# Altium schematic symbol library ARM Cortex.SchLib: 10 symbols
Pins are listed as number, name and electrical type; pins without a type are passive.

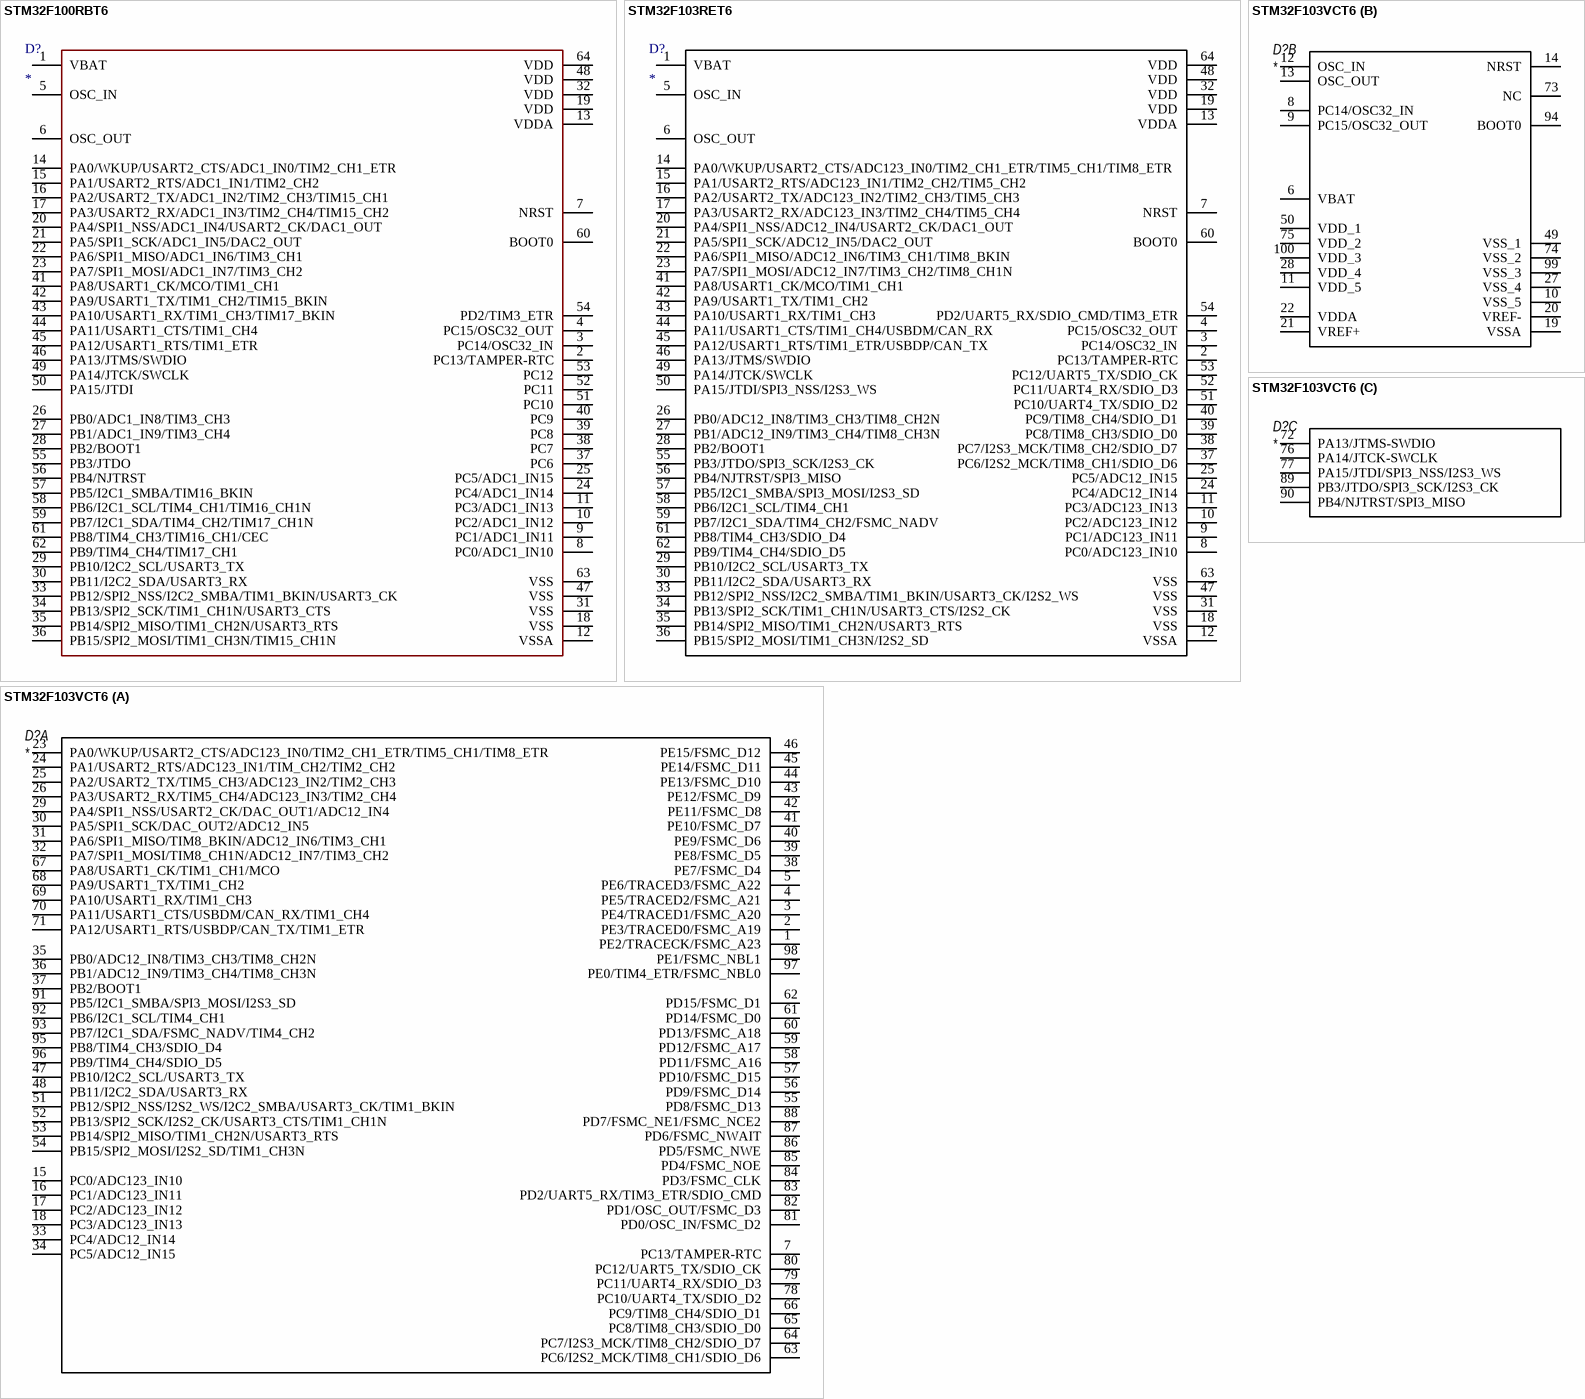
[diagram p0: symbols STM32F100RBT6 to STM32F103VCT6]

## STM32F100RBT6
designator D?
pins: 1 VBAT, 2 PC13/TAMPER-RTC, 3 PC14/OSC32_IN, 4 PC15/OSC32_OUT, 5 OSC_IN, 6 OSC_OUT, 7 NRST, 8 PC0/ADC1_IN10, 9 PC1/ADC1_IN11, 10 PC2/ADC1_IN12, 11 PC3/ADC1_IN13, 12 VSSA, 13 VDDA, 14 PA0/WKUP/USART2_CTS/ADC1_IN0/TIM2_CH1_ETR, 15 PA1/USART2_RTS/ADC1_IN1/TIM2_CH2, 16 PA2/USART2_TX/ADC1_IN2/TIM2_CH3/TIM15_CH1, 17 PA3/USART2_RX/ADC1_IN3/TIM2_CH4/TIM15_CH2, 18 VSS, 19 VDD, 20 PA4/SPI1_NSS/ADC1_IN4/USART2_CK/DAC1_OUT, 21 PA5/SPI1_SCK/ADC1_IN5/DAC2_OUT, 22 PA6/SPI1_MISO/ADC1_IN6/TIM3_CH1, 23 PA7/SPI1_MOSI/ADC1_IN7/TIM3_CH2, 24 PC4/ADC1_IN14, 25 PC5/ADC1_IN15, 26 PB0/ADC1_IN8/TIM3_CH3, 27 PB1/ADC1_IN9/TIM3_CH4, 28 PB2/BOOT1, 29 PB10/I2C2_SCL/USART3_TX, 30 PB11/I2C2_SDA/USART3_RX, 31 VSS, 32 VDD, 33 PB12/SPI2_NSS/I2C2_SMBA/TIM1_BKIN/USART3_CK, 34 PB13/SPI2_SCK/TIM1_CH1N/USART3_CTS, 35 PB14/SPI2_MISO/TIM1_CH2N/USART3_RTS, 36 PB15/SPI2_MOSI/TIM1_CH3N/TIM15_CH1N, 37 PC6, 38 PC7, 39 PC8, 40 PC9, 41 PA8/USART1_CK/MCO/TIM1_CH1, 42 PA9/USART1_TX/TIM1_CH2/TIM15_BKIN, 43 PA10/USART1_RX/TIM1_CH3/TIM17_BKIN, 44 PA11/USART1_CTS/TIM1_CH4, 45 PA12/USART1_RTS/TIM1_ETR, 46 PA13/JTMS/SWDIO, 47 VSS, 48 VDD, 49 PA14/JTCK/SWCLK, 50 PA15/JTDI, 51 PC10, 52 PC11, 53 PC12, 54 PD2/TIM3_ETR, 55 PB3/JTDO, 56 PB4/NJTRST, 57 PB5/I2C1_SMBA/TIM16_BKIN, 58 PB6/I2C1_SCL/TIM4_CH1/TIM16_CH1N, 59 PB7/I2C1_SDA/TIM4_CH2/TIM17_CH1N, 60 BOOT0, 61 PB8/TIM4_CH3/TIM16_CH1/CEC, 62 PB9/TIM4_CH4/TIM17_CH1, 63 VSS, 64 VDD

## STM32F103RET6
designator D?
pins: 1 VBAT, 2 PC13/TAMPER-RTC, 3 PC14/OSC32_IN, 4 PC15/OSC32_OUT, 5 OSC_IN, 6 OSC_OUT, 7 NRST, 8 PC0/ADC123_IN10, 9 PC1/ADC123_IN11, 10 PC2/ADC123_IN12, 11 PC3/ADC123_IN13, 12 VSSA, 13 VDDA, 14 PA0/WKUP/USART2_CTS/ADC123_IN0/TIM2_CH1_ETR/TIM5_CH1/TIM8_ETR, 15 PA1/USART2_RTS/ADC123_IN1/TIM2_CH2/TIM5_CH2, 16 PA2/USART2_TX/ADC123_IN2/TIM2_CH3/TIM5_CH3, 17 PA3/USART2_RX/ADC123_IN3/TIM2_CH4/TIM5_CH4, 18 VSS, 19 VDD, 20 PA4/SPI1_NSS/ADC12_IN4/USART2_CK/DAC1_OUT, 21 PA5/SPI1_SCK/ADC12_IN5/DAC2_OUT, 22 PA6/SPI1_MISO/ADC12_IN6/TIM3_CH1/TIM8_BKIN, 23 PA7/SPI1_MOSI/ADC12_IN7/TIM3_CH2/TIM8_CH1N, 24 PC4/ADC12_IN14, 25 PC5/ADC12_IN15, 26 PB0/ADC12_IN8/TIM3_CH3/TIM8_CH2N, 27 PB1/ADC12_IN9/TIM3_CH4/TIM8_CH3N, 28 PB2/BOOT1, 29 PB10/I2C2_SCL/USART3_TX, 30 PB11/I2C2_SDA/USART3_RX, 31 VSS, 32 VDD, 33 PB12/SPI2_NSS/I2C2_SMBA/TIM1_BKIN/USART3_CK/I2S2_WS, 34 PB13/SPI2_SCK/TIM1_CH1N/USART3_CTS/I2S2_CK, 35 PB14/SPI2_MISO/TIM1_CH2N/USART3_RTS, 36 PB15/SPI2_MOSI/TIM1_CH3N/I2S2_SD, 37 PC6/I2S2_MCK/TIM8_CH1/SDIO_D6, 38 PC7/I2S3_MCK/TIM8_CH2/SDIO_D7, 39 PC8/TIM8_CH3/SDIO_D0, 40 PC9/TIM8_CH4/SDIO_D1, 41 PA8/USART1_CK/MCO/TIM1_CH1, 42 PA9/USART1_TX/TIM1_CH2, 43 PA10/USART1_RX/TIM1_CH3, 44 PA11/USART1_CTS/TIM1_CH4/USBDM/CAN_RX, 45 PA12/USART1_RTS/TIM1_ETR/USBDP/CAN_TX, 46 PA13/JTMS/SWDIO, 47 VSS, 48 VDD, 49 PA14/JTCK/SWCLK, 50 PA15/JTDI/SPI3_NSS/I2S3_WS, 51 PC10/UART4_TX/SDIO_D2, 52 PC11/UART4_RX/SDIO_D3, 53 PC12/UART5_TX/SDIO_CK, 54 PD2/UART5_RX/SDIO_CMD/TIM3_ETR, 55 PB3/JTDO/SPI3_SCK/I2S3_CK, 56 PB4/NJTRST/SPI3_MISO, 57 PB5/I2C1_SMBA/SPI3_MOSI/I2S3_SD, 58 PB6/I2C1_SCL/TIM4_CH1, 59 PB7/I2C1_SDA/TIM4_CH2/FSMC_NADV, 60 BOOT0, 61 PB8/TIM4_CH3/SDIO_D4, 62 PB9/TIM4_CH4/SDIO_D5, 63 VSS, 64 VDD

## STM32F103VCT6
designator D?
LQFP100
part A pins: 1 PE2/TRACECK/FSMC_A23, 2 PE3/TRACED0/FSMC_A19, 3 PE4/TRACED1/FSMC_A20, 4 PE5/TRACED2/FSMC_A21, 5 PE6/TRACED3/FSMC_A22, 7 PC13/TAMPER-RTC, 15 PC0/ADC123_IN10, 16 PC1/ADC123_IN11, 17 PC2/ADC123_IN12, 18 PC3/ADC123_IN13, 23 PA0/WKUP/USART2_CTS/ADC123_IN0/TIM2_CH1_ETR/TIM5_CH1/TIM8_ETR, 24 PA1/USART2_RTS/ADC123_IN1/TIM_CH2/TIM2_CH2, 25 PA2/USART2_TX/TIM5_CH3/ADC123_IN2/TIM2_CH3, 26 PA3/USART2_RX/TIM5_CH4/ADC123_IN3/TIM2_CH4, 29 PA4/SPI1_NSS/USART2_CK/DAC_OUT1/ADC12_IN4, 30 PA5/SPI1_SCK/DAC_OUT2/ADC12_IN5, 31 PA6/SPI1_MISO/TIM8_BKIN/ADC12_IN6/TIM3_CH1, 32 PA7/SPI1_MOSI/TIM8_CH1N/ADC12_IN7/TIM3_CH2, 33 PC4/ADC12_IN14, 34 PC5/ADC12_IN15, 35 PB0/ADC12_IN8/TIM3_CH3/TIM8_CH2N, 36 PB1/ADC12_IN9/TIM3_CH4/TIM8_CH3N, 37 PB2/BOOT1, 38 PE7/FSMC_D4, 39 PE8/FSMC_D5, 40 PE9/FSMC_D6, 41 PE10/FSMC_D7, 42 PE11/FSMC_D8, 43 PE12/FSMC_D9, 44 PE13/FSMC_D10, 45 PE14/FSMC_D11, 46 PE15/FSMC_D12, 47 PB10/I2C2_SCL/USART3_TX, 48 PB11/I2C2_SDA/USART3_RX, 51 PB12/SPI2_NSS/I2S2_WS/I2C2_SMBA/USART3_CK/TIM1_BKIN, 52 PB13/SPI2_SCK/I2S2_CK/USART3_CTS/TIM1_CH1N, 53 PB14/SPI2_MISO/TIM1_CH2N/USART3_RTS, 54 PB15/SPI2_MOSI/I2S2_SD/TIM1_CH3N, 55 PD8/FSMC_D13, 56 PD9/FSMC_D14, 57 PD10/FSMC_D15, 58 PD11/FSMC_A16, 59 PD12/FSMC_A17, 60 PD13/FSMC_A18, 61 PD14/FSMC_D0, 62 PD15/FSMC_D1, 63 PC6/I2S2_MCK/TIM8_CH1/SDIO_D6, 64 PC7/I2S3_MCK/TIM8_CH2/SDIO_D7, 65 PC8/TIM8_CH3/SDIO_D0, 66 PC9/TIM8_CH4/SDIO_D1, 67 PA8/USART1_CK/TIM1_CH1/MCO, 68 PA9/USART1_TX/TIM1_CH2, 69 PA10/USART1_RX/TIM1_CH3, 70 PA11/USART1_CTS/USBDM/CAN_RX/TIM1_CH4, 71 PA12/USART1_RTS/USBDP/CAN_TX/TIM1_ETR, 78 PC10/UART4_TX/SDIO_D2, 79 PC11/UART4_RX/SDIO_D3, 80 PC12/UART5_TX/SDIO_CK, 81 PD0/OSC_IN/FSMC_D2, 82 PD1/OSC_OUT/FSMC_D3, 83 PD2/UART5_RX/TIM3_ETR/SDIO_CMD, 84 PD3/FSMC_CLK, 85 PD4/FSMC_NOE, 86 PD5/FSMC_NWE, 87 PD6/FSMC_NWAIT, 88 PD7/FSMC_NE1/FSMC_NCE2, 91 PB5/I2C1_SMBA/SPI3_MOSI/I2S3_SD, 92 PB6/I2C1_SCL/TIM4_CH1, 93 PB7/I2C1_SDA/FSMC_NADV/TIM4_CH2, 95 PB8/TIM4_CH3/SDIO_D4, 96 PB9/TIM4_CH4/SDIO_D5, 97 PE0/TIM4_ETR/FSMC_NBL0, 98 PE1/FSMC_NBL1
part B pins: 6 VBAT, 8 PC14/OSC32_IN, 9 PC15/OSC32_OUT, 10 VSS_5, 11 VDD_5, 12 OSC_IN, 13 OSC_OUT, 14 NRST, 19 VSSA, 20 VREF-, 21 VREF+, 22 VDDA, 27 VSS_4, 28 VDD_4, 49 VSS_1, 50 VDD_1, 73 NC, 74 VSS_2, 75 VDD_2, 94 BOOT0, 99 VSS_3, 100 VDD_3
part C pins: 72 PA13/JTMS-SWDIO, 76 PA14/JTCK-SWCLK, 77 PA15/JTDI/SPI3_NSS/I2S3_WS, 89 PB3/JTDO/SPI3_SCK/I2S3_CK, 90 PB4/NJTRST/SPI3_MISO

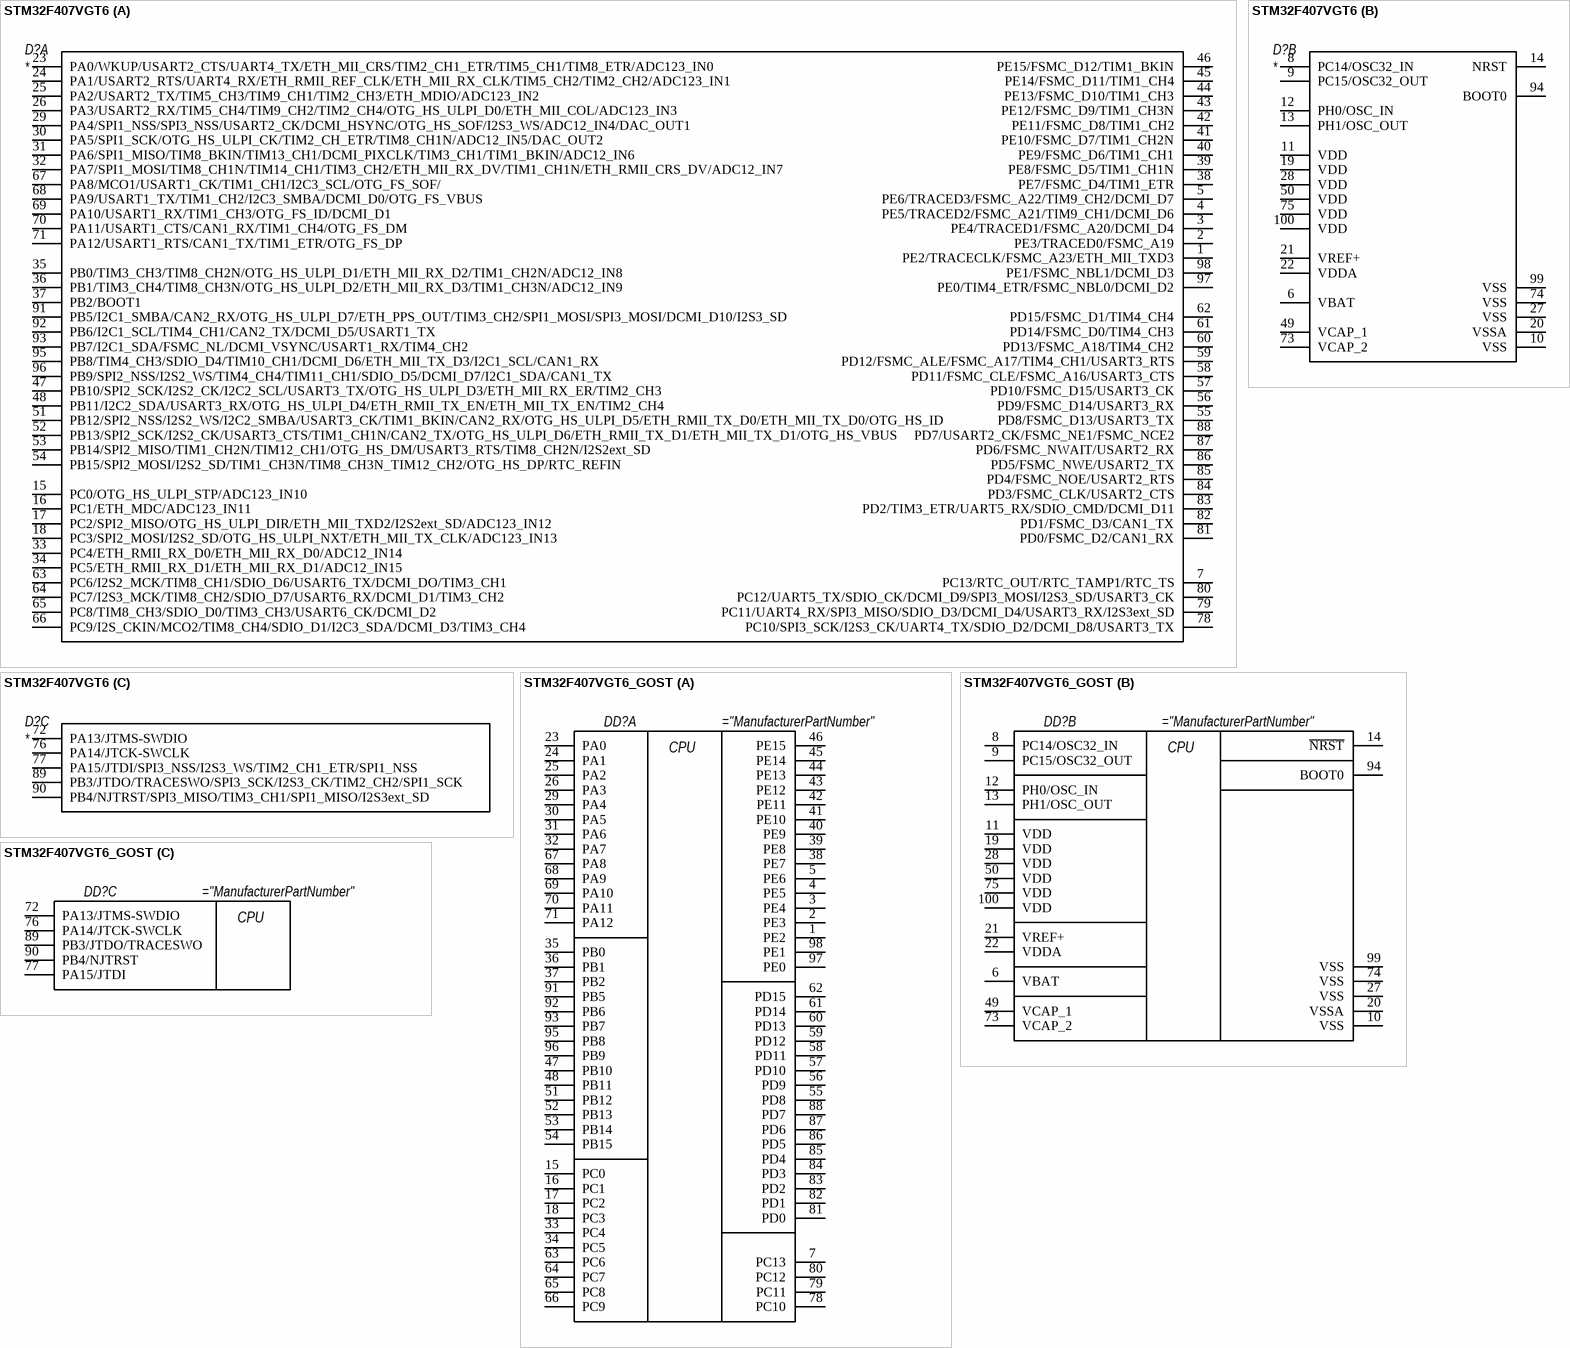
[diagram p1: symbols STM32F407VGT6 to STM32F407VGT6_GOST]

## STM32F407VGT6
designator D?
part A pins: 1 PE2/TRACECLK/FSMC_A23/ETH_MII_TXD3, 2 PE3/TRACED0/FSMC_A19, 3 PE4/TRACED1/FSMC_A20/DCMI_D4, 4 PE5/TRACED2/FSMC_A21/TIM9_CH1/DCMI_D6, 5 PE6/TRACED3/FSMC_A22/TIM9_CH2/DCMI_D7, 7 PC13/RTC_OUT/RTC_TAMP1/RTC_TS, 15 PC0/OTG_HS_ULPI_STP/ADC123_IN10, 16 PC1/ETH_MDC/ADC123_IN11, 17 PC2/SPI2_MISO/OTG_HS_ULPI_DIR/ETH_MII_TXD2/I2S2ext_SD/ADC123_IN12, 18 PC3/SPI2_MOSI/I2S2_SD/OTG_HS_ULPI_NXT/ETH_MII_TX_CLK/ADC123_IN13, 23 PA0/WKUP/USART2_CTS/UART4_TX/ETH_MII_CRS/TIM2_CH1_ETR/TIM5_CH1/TIM8_ETR/ADC123_IN0, 24 PA1/USART2_RTS/UART4_RX/ETH_RMII_REF_CLK/ETH_MII_RX_CLK/TIM5_CH2/TIM2_CH2/ADC123_IN1, 25 PA2/USART2_TX/TIM5_CH3/TIM9_CH1/TIM2_CH3/ETH_MDIO/ADC123_IN2, 26 PA3/USART2_RX/TIM5_CH4/TIM9_CH2/TIM2_CH4/OTG_HS_ULPI_D0/ETH_MII_COL/ADC123_IN3, 29 PA4/SPI1_NSS/SPI3_NSS/USART2_CK/DCMI_HSYNC/OTG_HS_SOF/I2S3_WS/ADC12_IN4/DAC_OUT1, 30 PA5/SPI1_SCK/OTG_HS_ULPI_CK/TIM2_CH_ETR/TIM8_CH1N/ADC12_IN5/DAC_OUT2, 31 PA6/SPI1_MISO/TIM8_BKIN/TIM13_CH1/DCMI_PIXCLK/TIM3_CH1/TIM1_BKIN/ADC12_IN6, 32 PA7/SPI1_MOSI/TIM8_CH1N/TIM14_CH1/TIM3_CH2/ETH_MII_RX_DV/TIM1_CH1N/ETH_RMII_CRS_DV/ADC12_IN7, 33 PC4/ETH_RMII_RX_D0/ETH_MII_RX_D0/ADC12_IN14, 34 PC5/ETH_RMII_RX_D1/ETH_MII_RX_D1/ADC12_IN15, 35 PB0/TIM3_CH3/TIM8_CH2N/OTG_HS_ULPI_D1/ETH_MII_RX_D2/TIM1_CH2N/ADC12_IN8, 36 PB1/TIM3_CH4/TIM8_CH3N/OTG_HS_ULPI_D2/ETH_MII_RX_D3/TIM1_CH3N/ADC12_IN9, 37 PB2/BOOT1, 38 PE7/FSMC_D4/TIM1_ETR, 39 PE8/FSMC_D5/TIM1_CH1N, 40 PE9/FSMC_D6/TIM1_CH1, 41 PE10/FSMC_D7/TIM1_CH2N, 42 PE11/FSMC_D8/TIM1_CH2, 43 PE12/FSMC_D9/TIM1_CH3N, 44 PE13/FSMC_D10/TIM1_CH3, 45 PE14/FSMC_D11/TIM1_CH4, 46 PE15/FSMC_D12/TIM1_BKIN, 47 PB10/SPI2_SCK/I2S2_CK/I2C2_SCL/USART3_TX/OTG_HS_ULPI_D3/ETH_MII_RX_ER/TIM2_CH3, 48 PB11/I2C2_SDA/USART3_RX/OTG_HS_ULPI_D4/ETH_RMII_TX_EN/ETH_MII_TX_EN/TIM2_CH4, 51 PB12/SPI2_NSS/I2S2_WS/I2C2_SMBA/USART3_CK/TIM1_BKIN/CAN2_RX/OTG_HS_ULPI_D5/ETH_RMII_TX_D0/ETH_MII_TX_D0/OTG_HS_ID, 52 PB13/SPI2_SCK/I2S2_CK/USART3_CTS/TIM1_CH1N/CAN2_TX/OTG_HS_ULPI_D6/ETH_RMII_TX_D1/ETH_MII_TX_D1/OTG_HS_VBUS, 53 PB14/SPI2_MISO/TIM1_CH2N/TIM12_CH1/OTG_HS_DM/USART3_RTS/TIM8_CH2N/I2S2ext_SD, 54 PB15/SPI2_MOSI/I2S2_SD/TIM1_CH3N/TIM8_CH3N_TIM12_CH2/OTG_HS_DP/RTC_REFIN, 55 PD8/FSMC_D13/USART3_TX, 56 PD9/FSMC_D14/USART3_RX, 57 PD10/FSMC_D15/USART3_CK, 58 PD11/FSMC_CLE/FSMC_A16/USART3_CTS, 59 PD12/FSMC_ALE/FSMC_A17/TIM4_CH1/USART3_RTS, 60 PD13/FSMC_A18/TIM4_CH2, 61 PD14/FSMC_D0/TIM4_CH3, 62 PD15/FSMC_D1/TIM4_CH4, 63 PC6/I2S2_MCK/TIM8_CH1/SDIO_D6/USART6_TX/DCMI_DO/TIM3_CH1, 64 PC7/I2S3_MCK/TIM8_CH2/SDIO_D7/USART6_RX/DCMI_D1/TIM3_CH2, 65 PC8/TIM8_CH3/SDIO_D0/TIM3_CH3/USART6_CK/DCMI_D2, 66 PC9/I2S_CKIN/MCO2/TIM8_CH4/SDIO_D1/I2C3_SDA/DCMI_D3/TIM3_CH4, 67 PA8/MCO1/USART1_CK/TIM1_CH1/I2C3_SCL/OTG_FS_SOF/, 68 PA9/USART1_TX/TIM1_CH2/I2C3_SMBA/DCMI_D0/OTG_FS_VBUS, 69 PA10/USART1_RX/TIM1_CH3/OTG_FS_ID/DCMI_D1, 70 PA11/USART1_CTS/CAN1_RX/TIM1_CH4/OTG_FS_DM, 71 PA12/USART1_RTS/CAN1_TX/TIM1_ETR/OTG_FS_DP, 78 PC10/SPI3_SCK/I2S3_CK/UART4_TX/SDIO_D2/DCMI_D8/USART3_TX, 79 PC11/UART4_RX/SPI3_MISO/SDIO_D3/DCMI_D4/USART3_RX/I2S3ext_SD, 80 PC12/UART5_TX/SDIO_CK/DCMI_D9/SPI3_MOSI/I2S3_SD/USART3_CK, 81 PD0/FSMC_D2/CAN1_RX, 82 PD1/FSMC_D3/CAN1_TX, 83 PD2/TIM3_ETR/UART5_RX/SDIO_CMD/DCMI_D11, 84 PD3/FSMC_CLK/USART2_CTS, 85 PD4/FSMC_NOE/USART2_RTS, 86 PD5/FSMC_NWE/USART2_TX, 87 PD6/FSMC_NWAIT/USART2_RX, 88 PD7/USART2_CK/FSMC_NE1/FSMC_NCE2, 91 PB5/I2C1_SMBA/CAN2_RX/OTG_HS_ULPI_D7/ETH_PPS_OUT/TIM3_CH2/SPI1_MOSI/SPI3_MOSI/DCMI_D10/I2S3_SD, 92 PB6/I2C1_SCL/TIM4_CH1/CAN2_TX/DCMI_D5/USART1_TX, 93 PB7/I2C1_SDA/FSMC_NL/DCMI_VSYNC/USART1_RX/TIM4_CH2, 95 PB8/TIM4_CH3/SDIO_D4/TIM10_CH1/DCMI_D6/ETH_MII_TX_D3/I2C1_SCL/CAN1_RX, 96 PB9/SPI2_NSS/I2S2_WS/TIM4_CH4/TIM11_CH1/SDIO_D5/DCMI_D7/I2C1_SDA/CAN1_TX, 97 PE0/TIM4_ETR/FSMC_NBL0/DCMI_D2, 98 PE1/FSMC_NBL1/DCMI_D3
part B pins: 6 VBAT, 8 PC14/OSC32_IN, 9 PC15/OSC32_OUT, 10 VSS, 11 VDD, 12 PH0/OSC_IN, 13 PH1/OSC_OUT, 14 NRST, 19 VDD, 20 VSSA, 21 VREF+, 22 VDDA, 27 VSS, 28 VDD, 49 VCAP_1, 50 VDD, 73 VCAP_2, 74 VSS, 75 VDD, 94 BOOT0, 99 VSS, 100 VDD
part C pins: 72 PA13/JTMS-SWDIO, 76 PA14/JTCK-SWCLK, 77 PA15/JTDI/SPI3_NSS/I2S3_WS/TIM2_CH1_ETR/SPI1_NSS, 89 PB3/JTDO/TRACESWO/SPI3_SCK/I2S3_CK/TIM2_CH2/SPI1_SCK, 90 PB4/NJTRST/SPI3_MISO/TIM3_CH1/SPI1_MISO/I2S3ext_SD

## STM32F407VGT6_GOST
designator DD?
part A pins: 1 PE2, 2 PE3, 3 PE4, 4 PE5, 5 PE6, 7 PC13, 15 PC0, 16 PC1, 17 PC2, 18 PC3, 23 PA0, 24 PA1, 25 PA2, 26 PA3, 29 PA4, 30 PA5, 31 PA6, 32 PA7, 33 PC4, 34 PC5, 35 PB0, 36 PB1, 37 PB2, 38 PE7, 39 PE8, 40 PE9, 41 PE10, 42 PE11, 43 PE12, 44 PE13, 45 PE14, 46 PE15, 47 PB10, 48 PB11, 51 PB12, 52 PB13, 53 PB14, 54 PB15, 55 PD8, 56 PD9, 57 PD10, 58 PD11, 59 PD12, 60 PD13, 61 PD14, 62 PD15, 63 PC6, 64 PC7, 65 PC8, 66 PC9, 67 PA8, 68 PA9, 69 PA10, 70 PA11, 71 PA12, 78 PC10, 79 PC11, 80 PC12, 81 PD0, 82 PD1, 83 PD2, 84 PD3, 85 PD4, 86 PD5, 87 PD6, 88 PD7, 91 PB5, 92 PB6, 93 PB7, 95 PB8, 96 PB9, 97 PE0, 98 PE1
part B pins: 6 VBAT, 8 PC14/OSC32_IN, 9 PC15/OSC32_OUT, 10 VSS, 11 VDD, 12 PH0/OSC_IN, 13 PH1/OSC_OUT, 14 ~{NRST}, 19 VDD, 20 VSSA, 21 VREF+, 22 VDDA, 27 VSS, 28 VDD, 49 VCAP_1, 50 VDD, 73 VCAP_2, 74 VSS, 75 VDD, 94 BOOT0, 99 VSS, 100 VDD
part C pins: 72 PA13/JTMS-SWDIO, 76 PA14/JTCK-SWCLK, 77 PA15/JTDI, 89 PB3/JTDO/TRACESWO, 90 PB4/NJTRST
part A text: CPU
part B text: CPU
part C text: CPU

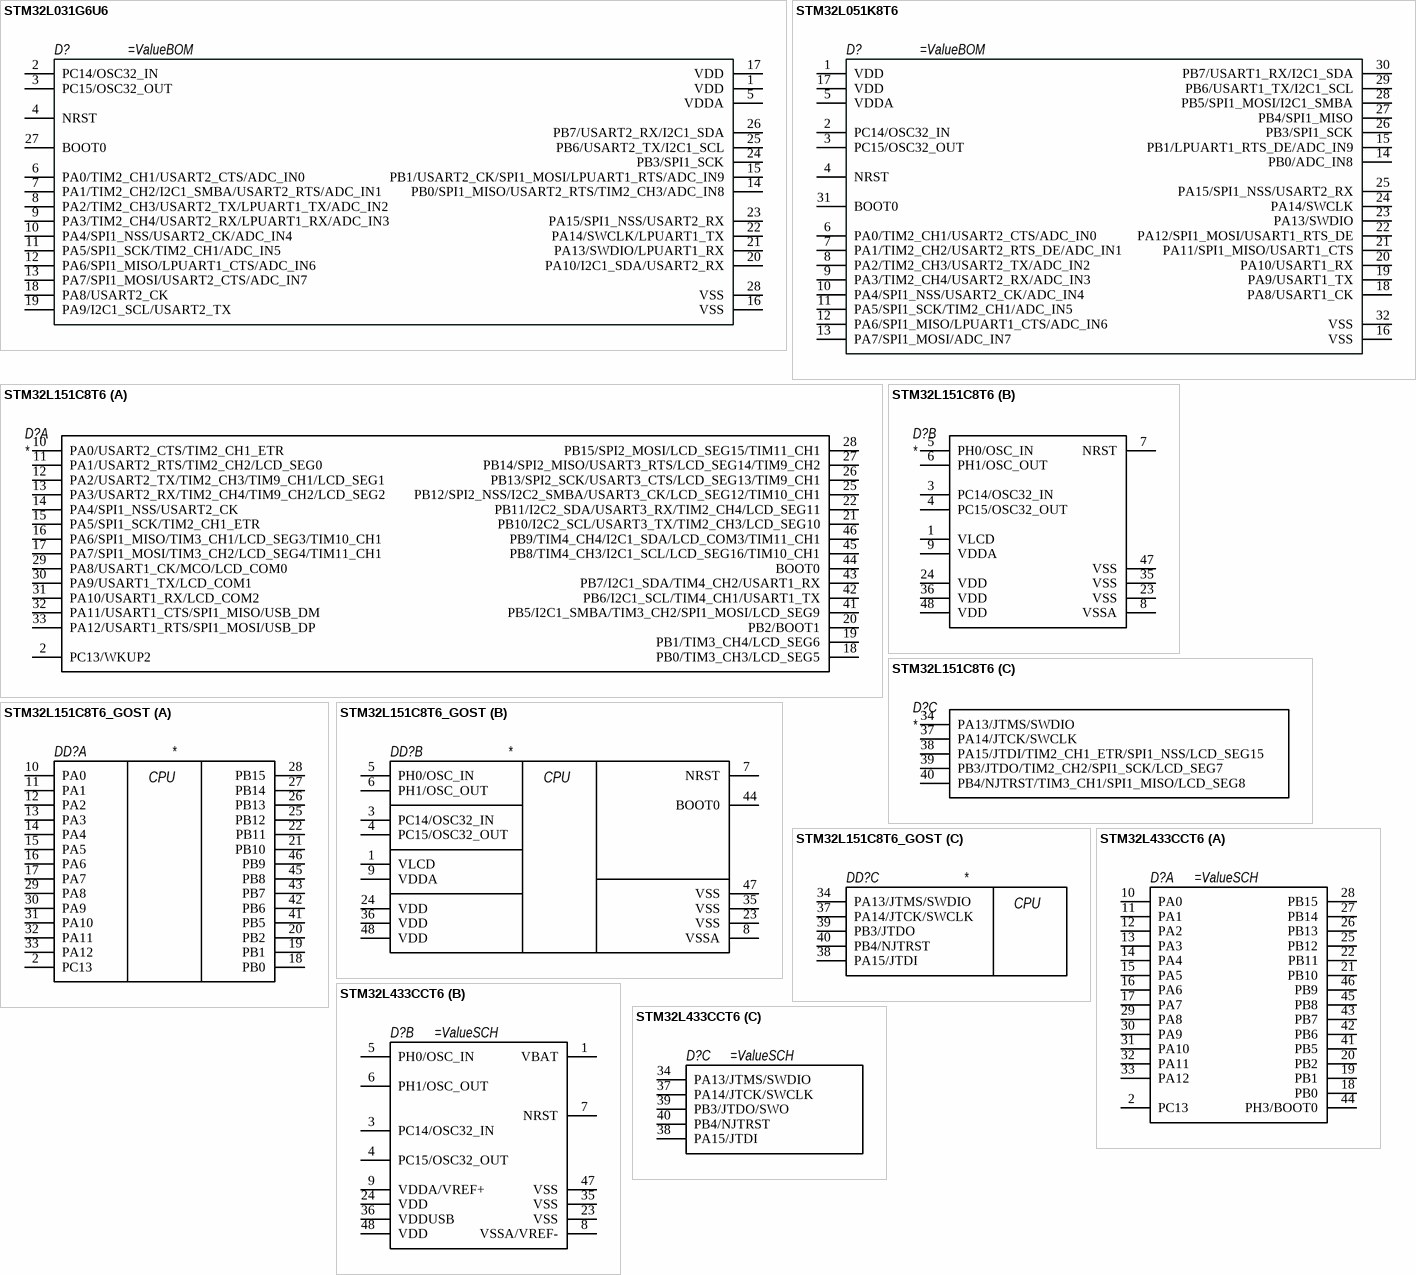
[diagram p2: symbols STM32L031G6U6 to STM32L433CCT6]

## STM32L031G6U6
designator D?
pins: 1 VDD, 2 PC14/OSC32_IN, 3 PC15/OSC32_OUT, 4 NRST, 5 VDDA, 6 PA0/TIM2_CH1/USART2_CTS/ADC_IN0, 7 PA1/TIM2_CH2/I2C1_SMBA/USART2_RTS/ADC_IN1, 8 PA2/TIM2_CH3/USART2_TX/LPUART1_TX/ADC_IN2, 9 PA3/TIM2_CH4/USART2_RX/LPUART1_RX/ADC_IN3, 10 PA4/SPI1_NSS/USART2_CK/ADC_IN4, 11 PA5/SPI1_SCK/TIM2_CH1/ADC_IN5, 12 PA6/SPI1_MISO/LPUART1_CTS/ADC_IN6, 13 PA7/SPI1_MOSI/USART2_CTS/ADC_IN7, 14 PB0/SPI1_MISO/USART2_RTS/TIM2_CH3/ADC_IN8, 15 PB1/USART2_CK/SPI1_MOSI/LPUART1_RTS/ADC_IN9, 16 VSS, 17 VDD, 18 PA8/USART2_CK, 19 PA9/I2C1_SCL/USART2_TX, 20 PA10/I2C1_SDA/USART2_RX, 21 PA13/SWDIO/LPUART1_RX, 22 PA14/SWCLK/LPUART1_TX, 23 PA15/SPI1_NSS/USART2_RX, 24 PB3/SPI1_SCK, 25 PB6/USART2_TX/I2C1_SCL, 26 PB7/USART2_RX/I2C1_SDA, 27 BOOT0, 28 VSS

## STM32L051K8T6
designator D?
pins: 1 VDD, 2 PC14/OSC32_IN, 3 PC15/OSC32_OUT, 4 NRST, 5 VDDA, 6 PA0/TIM2_CH1/USART2_CTS/ADC_IN0, 7 PA1/TIM2_CH2/USART2_RTS_DE/ADC_IN1, 8 PA2/TIM2_CH3/USART2_TX/ADC_IN2, 9 PA3/TIM2_CH4/USART2_RX/ADC_IN3, 10 PA4/SPI1_NSS/USART2_CK/ADC_IN4, 11 PA5/SPI1_SCK/TIM2_CH1/ADC_IN5, 12 PA6/SPI1_MISO/LPUART1_CTS/ADC_IN6, 13 PA7/SPI1_MOSI/ADC_IN7, 14 PB0/ADC_IN8, 15 PB1/LPUART1_RTS_DE/ADC_IN9, 16 VSS, 17 VDD, 18 PA8/USART1_CK, 19 PA9/USART1_TX, 20 PA10/USART1_RX, 21 PA11/SPI1_MISO/USART1_CTS, 22 PA12/SPI1_MOSI/USART1_RTS_DE, 23 PA13/SWDIO, 24 PA14/SWCLK, 25 PA15/SPI1_NSS/USART2_RX, 26 PB3/SPI1_SCK, 27 PB4/SPI1_MISO, 28 PB5/SPI1_MOSI/I2C1_SMBA, 29 PB6/USART1_TX/I2C1_SCL, 30 PB7/USART1_RX/I2C1_SDA, 31 BOOT0, 32 VSS

## STM32L151C8T6
designator D?
LQFP48
part A pins: 2 PC13/WKUP2, 10 PA0/USART2_CTS/TIM2_CH1_ETR, 11 PA1/USART2_RTS/TIM2_CH2/LCD_SEG0, 12 PA2/USART2_TX/TIM2_CH3/TIM9_CH1/LCD_SEG1, 13 PA3/USART2_RX/TIM2_CH4/TIM9_CH2/LCD_SEG2, 14 PA4/SPI1_NSS/USART2_CK, 15 PA5/SPI1_SCK/TIM2_CH1_ETR, 16 PA6/SPI1_MISO/TIM3_CH1/LCD_SEG3/TIM10_CH1, 17 PA7/SPI1_MOSI/TIM3_CH2/LCD_SEG4/TIM11_CH1, 18 PB0/TIM3_CH3/LCD_SEG5, 19 PB1/TIM3_CH4/LCD_SEG6, 20 PB2/BOOT1, 21 PB10/I2C2_SCL/USART3_TX/TIM2_CH3/LCD_SEG10, 22 PB11/I2C2_SDA/USART3_RX/TIM2_CH4/LCD_SEG11, 25 PB12/SPI2_NSS/I2C2_SMBA/USART3_CK/LCD_SEG12/TIM10_CH1, 26 PB13/SPI2_SCK/USART3_CTS/LCD_SEG13/TIM9_CH1, 27 PB14/SPI2_MISO/USART3_RTS/LCD_SEG14/TIM9_CH2, 28 PB15/SPI2_MOSI/LCD_SEG15/TIM11_CH1, 29 PA8/USART1_CK/MCO/LCD_COM0, 30 PA9/USART1_TX/LCD_COM1, 31 PA10/USART1_RX/LCD_COM2, 32 PA11/USART1_CTS/SPI1_MISO/USB_DM, 33 PA12/USART1_RTS/SPI1_MOSI/USB_DP, 41 PB5/I2C1_SMBA/TIM3_CH2/SPI1_MOSI/LCD_SEG9, 42 PB6/I2C1_SCL/TIM4_CH1/USART1_TX, 43 PB7/I2C1_SDA/TIM4_CH2/USART1_RX, 44 BOOT0, 45 PB8/TIM4_CH3/I2C1_SCL/LCD_SEG16/TIM10_CH1, 46 PB9/TIM4_CH4/I2C1_SDA/LCD_COM3/TIM11_CH1
part B pins: 1 VLCD, 3 PC14/OSC32_IN, 4 PC15/OSC32_OUT, 5 PH0/OSC_IN, 6 PH1/OSC_OUT, 7 NRST, 8 VSSA, 9 VDDA, 23 VSS, 24 VDD, 35 VSS, 36 VDD, 47 VSS, 48 VDD
part C pins: 34 PA13/JTMS/SWDIO, 37 PA14/JTCK/SWCLK, 38 PA15/JTDI/TIM2_CH1_ETR/SPI1_NSS/LCD_SEG15, 39 PB3/JTDO/TIM2_CH2/SPI1_SCK/LCD_SEG7, 40 PB4/NJTRST/TIM3_CH1/SPI1_MISO/LCD_SEG8

## STM32L151C8T6_GOST
designator DD?
LQFP48
part A pins: 2 PC13, 10 PA0, 11 PA1, 12 PA2, 13 PA3, 14 PA4, 15 PA5, 16 PA6, 17 PA7, 18 PB0, 19 PB1, 20 PB2, 21 PB10, 22 PB11, 25 PB12, 26 PB13, 27 PB14, 28 PB15, 29 PA8, 30 PA9, 31 PA10, 32 PA11, 33 PA12, 41 PB5, 42 PB6, 43 PB7, 45 PB8, 46 PB9
part B pins: 1 VLCD, 3 PC14/OSC32_IN, 4 PC15/OSC32_OUT, 5 PH0/OSC_IN, 6 PH1/OSC_OUT, 7 NRST, 8 VSSA, 9 VDDA, 23 VSS, 24 VDD, 35 VSS, 36 VDD, 44 BOOT0, 47 VSS, 48 VDD
part C pins: 34 PA13/JTMS/SWDIO, 37 PA14/JTCK/SWCLK, 38 PA15/JTDI, 39 PB3/JTDO, 40 PB4/NJTRST
part A text: CPU
part B text: CPU
part C text: CPU

## STM32L433CCT6
designator D?
part A pins: 2 PC13, 10 PA0, 11 PA1, 12 PA2, 13 PA3, 14 PA4, 15 PA5, 16 PA6, 17 PA7, 18 PB0, 19 PB1, 20 PB2, 21 PB10, 22 PB11, 25 PB12, 26 PB13, 27 PB14, 28 PB15, 29 PA8, 30 PA9, 31 PA10, 32 PA11, 33 PA12, 41 PB5, 42 PB6, 43 PB7, 44 PH3/BOOT0, 45 PB8, 46 PB9
part B pins: 1 VBAT, 3 PC14/OSC32_IN, 4 PC15/OSC32_OUT, 5 PH0/OSC_IN, 6 PH1/OSC_OUT, 7 NRST, 8 VSSA/VREF-, 9 VDDA/VREF+, 23 VSS, 24 VDD, 35 VSS, 36 VDDUSB, 47 VSS, 48 VDD
part C pins: 34 PA13/JTMS/SWDIO, 37 PA14/JTCK/SWCLK, 38 PA15/JTDI, 39 PB3/JTDO/SWO, 40 PB4/NJTRST